# Altium footprint library PcbLib_Sword.PcbLib: 33 footprints (part 2 of 3)
Each footprint in its own frame and in the unit in brackets; x right, y up, seen from the top. Pads: shape width x height; smd on the part's side, far side on the other; paste and mask are expansions set on the pad; w line width, h text height; cw(c..) or ccw(c..) is an arc to the next point about the centre after c.
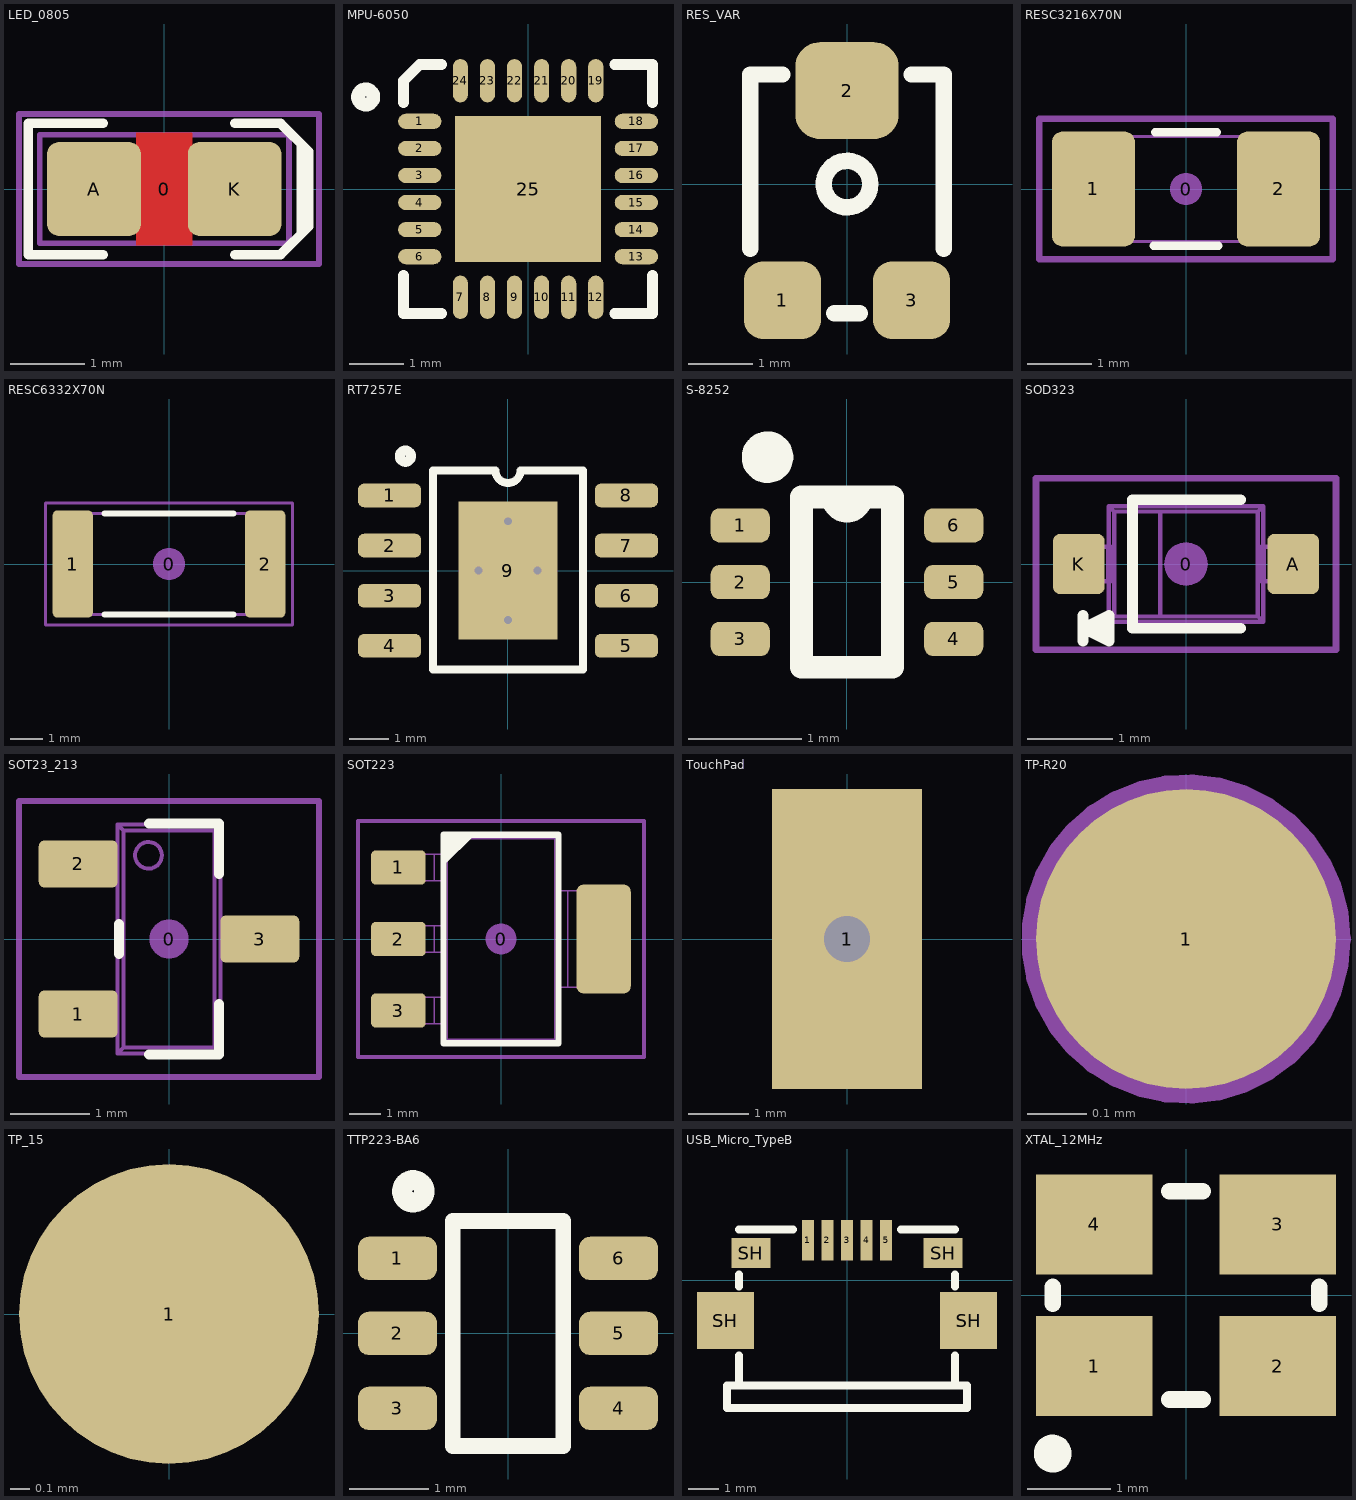
[diagram p1: the footprints below, top view; thin cyan lines are the x and y axes]

## LED_0805 [mil]
pads (3):
  round 20 on Mech15: 0(0,0)
  rrect25% 50x50 smd: A(-37.5,0) K(37.5,0)
Top Layer:
  pour cut-out: -15,30 15,30 15,-30 -15,-30
Top Overlay:
  lines w5: -32.5,-35 -72.5,-35 -72.5,35 -32.5,35 ; 37.5,-35 62,-35 77,-20 77,20 62,35 37.5,35 ; 73,-24 73,24
Mechanical 13:
  lines w3: -66.5,-29 66.5,-29 66.5,29 -66.5,29 -66.5,-29
Mechanical 15:
  lines w3: -77.5,-40 82.5,-40 82.5,40 -77.5,40 -77.5,-40
3D body: height 31.5, standoff 11.81, extent -28.65,-24.6 26.49,24.61
3D body: height 11.81, standoff 3.94, extent -39.37,-24.61 39.37,24.61
3D body: height 3.94, standoff 0, extent -39.37,-24.61 39.37,24.61
3D body: height 3.94, standoff 0, extent -11.81,-15.75 11.81,15.75

## MPU-6050 [mm]
pads (25):
  oval 0.8x0.28 smd: 1(-2,1.25) 2(-2,0.75) 3(-2,0.25) 4(-2,-0.25) 5(-2,-0.75) 6(-2,-1.25) 13(2,-1.25) 14(2,-0.75) 15(2,-0.25) 16(2,0.25) 17(2,0.75) 18(2,1.25)
  oval 0.28x0.8 smd: 7(-1.25,-2) 8(-0.75,-2) 9(-0.25,-2) 10(0.25,-2) 11(0.75,-2) 12(1.25,-2) 19(1.25,2) 20(0.75,2) 21(0.25,2) 22(-0.25,2) 23(-0.75,2) 24(-1.25,2)
  rect 2.7x2.7 smd: 25(0,0)
Top Overlay:
  circle w0.254: c-3,1.7 r0.141
  lines w0.2: -2.3,-1.6 -2.3,-2.3 -1.6,-2.3 ; -2.3,1.6 -2.3,2 -2,2.3 -1.6,2.3 ; 1.6,-2.3 2.3,-2.3 2.3,-1.6 ; 1.6,2.3 2.3,2.3 2.3,1.6
3D body "MPU-6050.step": height 0.94, standoff 0, extent -2.045,-2.045 2.045,2.045

## RES_VAR [mm]
pads (3):
  rrect50% 1.2x1.2 smd: 1(-1,-1.8) 3(1,-1.8)
  rrect50% 1.6x1.5 smd: 2(0,1.45)
Top Overlay:
  circle w0.254: c0,0 r0.361
  lines w0.254: -1.5,-1 -1.5,1.7 -1,1.7 ; -0.2,-2 0.2,-2 ; 1,1.7 1.5,1.7 1.5,-1
3D body "ResistorVar.step": height 1.11, standoff 0.01, extent -1.1,-1.524 1.1,1.375

## RESC3216X70N [mm] "Chip Resistor, Body 3.2x1.6mm, EIA 1206, IPC Medium Density"
height 0.7
pads (3):
  round 0.508 on Mech15: 0(0,0)
  rrect25% 1.3x1.8 smd: 1(-1.45,0) 2(1.45,0)
Top Overlay:
  lines w0.127: -0.508,-0.889 0.508,-0.889 ; -0.483,0.889 0.483,0.889
Mechanical 13:
  lines w0.05: 1.025,-0.824 -1.025,-0.824 1.025,-0.824 ; -1.625,-0.825 -1.625,0.825 -1.025,0.825 -1.025,-0.825 -1.625,-0.825 ; -1.025,0.824 1.025,0.824 -1.025,0.824 ; 1.025,-0.825 1.625,-0.825 1.625,0.825 1.025,0.825 1.025,-0.825
Mechanical 15:
  lines w0.1: -2.3,-1.1 2.3,-1.1 2.3,1.1 -2.3,1.1 -2.3,-1.1
3D body "RES 1206 (3216 metric).STEP": height 0.69, standoff -0.01, extent -1.625,-0.825 1.625,0.825

## RESC6332X70N [mm] "Chip Resistor, Body 6.3x3.2mm, 2512, IPC Medium Density"
height 0.7
pads (3):
  round 1 on Mech15: 0(0,0)
  rrect25% 1.25x3.35 smd: 1(-3,0) 2(3,0)
Top Overlay:
  lines w0.2: -2,-1.575 2,-1.575 ; -2,1.575 2,1.575
Mechanical 13:
  lines w0.1: -3.15,-1.575 3.15,-1.575 3.15,1.575 -3.15,1.575 -3.15,-1.575
Mechanical 15:
  lines w0.1: -3.85,-1.9 3.85,-1.9 3.85,1.9 -3.85,1.9 -3.85,-1.9
3D body "RES 2512 (6432 metric).STEP": height 0.69, standoff -0.01, extent -3.3,-1.7 3.3,1.7

## RT7257E [mm]
pads (9):
  rrect50% 1.6x0.6 smd: 1(-3,1.905) 2(-3,0.635) 3(-3,-0.635) 4(-3,-1.905) 5(3,-1.905) 6(3,-0.635) 7(3,0.635) 8(3,1.905)
  rect 2.5x3.5 smd: 9(0,0)
via 0,1.25 diameter 0.45 hole 0.2
via 0,-1.25 diameter 0.45 hole 0.2
via 0.75,0 diameter 0.45 hole 0.2
via -0.75,0 diameter 0.45 hole 0.2
Top Overlay:
  circle w0.254: c-2.6,2.9 r0.141
  lines w0.2: -1.9,-2.5 -1.9,2.54 -0.318,2.54 ccw(c0,2.54) 0.318,2.54 1.9,2.54 1.9,-2.5 -1.9,-2.5

## S-8252 [mm]
pads (6):
  rrect50% 0.52x0.3 smd: 1(-0.94,0.5) 2(-0.94,0) 3(-0.94,-0.5) 4(0.94,-0.5) 5(0.94,0) 6(0.94,0.5)
Top Overlay:
  circle w0.254: c-0.7,1.1 r0.1
  lines w0.2: -0.4,-0.75 -0.4,0.75 0.125,0.75 cw(c0,0.75) -0.125,0.75 0.4,0.75 0.4,-0.75 -0.4,-0.75

## SOD323 [mm] "SOD-323; 2 Leads; Body 1.8 x 1.35 mm, (LxW)"
height 1.15
pads (3):
  round 0.508 on Mech15: 0(0,0)
  rrect25% 0.6x0.7 smd: A(1.25,0) K(-1.25,0)
Top Overlay:
  lines w0.127: -1.2,-0.9 -1.2,-0.6 ; -0.9,-0.75 -1.2,-0.75 ; 0.635,-0.75 -0.625,-0.75 -0.625,0.75 0.635,0.75 ; -1.2,-0.75 -0.9,-0.9 -0.9,-0.6 -1.2,-0.75
Mechanical 13:
  lines w0.05: -1.157,-0.2 -1.157,0.2 ; -1.11,-0.2 -1.11,0.2 ; -0.91,-0.2 -0.91,0.2 ; -0.9,-0.2 -0.9,-0.675 ; -0.9,0.2 -0.9,0.675 ; 0.9,-0.2 0.9,-0.675 ; 0.9,0.2 0.9,0.675 ; 0.91,-0.2 0.91,0.2 ; 1.11,-0.2 1.11,0.2 ; 1.157,-0.2 1.157,0.2 ; -0.9,-0.675 -0.838,-0.613 ; -0.9,-0.675 0.9,-0.675 ; -0.9,0.675 0.9,0.675 ; -0.9,0.675 -0.838,0.613 ; -0.838,-0.613 -0.838,0.613 ; -0.838,-0.613 -0.3,-0.613 ; -0.838,0.613 -0.3,0.613 ; -0.3,-0.613 -0.3,0.613 ; -0.3,-0.613 0.838,-0.613 ; -0.3,0.613 0.838,0.613 ; 0.838,-0.613 0.838,0.613 ; 0.838,-0.613 0.9,-0.675 ; 0.838,0.613 0.9,0.675 ; -1.3,-0.2 -1.3,0.2 -0.879,0.2 -0.879,-0.2 -1.3,-0.2 ; 0.879,-0.2 1.3,-0.2 1.3,0.2 0.879,0.2 0.879,-0.2
Mechanical 15:
  lines w0.076: -1.75,-1 -1.75,1 1.75,1 1.75,-1 -1.75,-1
3D body "SOD323.STEP": height 1.1, standoff 0, extent -1.3,-0.675 1.3,0.675

## SOT23_213 [mm]
height 1.003
pads (4):
  round 0.5 on Mech15: 0(0,0)
  rrect25% 1x0.6 smd: 1(-1.15,-0.95) 2(-1.15,0.95) 3(1.15,0)
Top Overlay:
  lines w0.127: -0.635,-0.191 -0.635,0.191 ; -0.254,-1.46 0.635,-1.46 0.635,-0.826 ; -0.254,1.46 0.635,1.46 0.635,0.826
Mechanical 13:
  circle w0.05: c-0.26,1.06 r0.169
  lines w0.05: -1.19,-1.19 -1.19,-0.71 ; -1.19,0.71 -1.19,1.19 ; -1.099,-1.19 -1.099,-0.71 ; -1.099,0.71 -1.099,1.19 ; -1.074,-1.19 -1.074,-0.71 ; -1.074,0.71 -1.074,1.19 ; -0.825,-1.19 -0.825,-0.71 ; -0.825,0.71 -0.825,1.19 ; -0.65,-1.19 -1.4,-1.19 -1.4,-0.71 -0.65,-0.71 ; -0.65,0.71 -1.4,0.71 -1.4,1.19 -0.65,1.19 ; 0.65,-0.24 1.4,-0.24 1.4,0.24 0.65,0.24 ; 0.825,-0.24 0.825,0.24 ; 1.074,-0.24 1.074,0.24 ; 1.099,-0.24 1.099,0.24 ; 1.19,-0.24 1.19,0.24 ; -0.65,-1.45 0.65,-1.45 ; -0.65,-1.45 -0.65,1.45 ; -0.65,-1.45 -0.576,-1.376 ; -0.65,1.45 -0.576,1.376 ; -0.65,1.45 0.65,1.45 ; -0.576,-1.376 0.576,-1.376 ; -0.576,-1.376 -0.576,1.376 ; -0.576,1.376 0.576,1.376 ; 0.576,-1.376 0.65,-1.45 ; 0.576,-1.376 0.576,1.376 ; 0.576,1.376 0.65,1.45 ; 0.65,-1.45 0.65,1.45
Mechanical 15:
  lines w0.076: -1.9,-1.75 1.9,-1.75 1.9,1.75 -1.9,1.75 -1.9,-1.75
3D body "SOT23-3.STEP": height 1.29, standoff -0.01, extent -1.4,-1.45 1.4,1.45

## SOT223 [mm] "SOT223 /SC-73"
height 1.524
pads (5):
  round 1 on Mech15: 0(0,0)
  rrect25% 1.75x1.1 smd: 1(-3.3,2.3) 2(-3.3,0) 3(-3.3,-2.3)
  rrect25% 1.75x3.5 smd: ""(3.3,0)
Top Overlay:
  region: -1.85,3.35 -0.85,3.35 -1.85,2.35
  lines w0.2: -1.85,-3.35 -1.85,3.35 1.85,3.35 1.85,-3.35 -1.85,-3.35
Mechanical 13:
  lines w0.05: -3.186,-2.72 -3.186,-1.88 ; -3.186,-0.42 -3.186,0.42 ; -3.186,1.88 -3.186,2.72 ; -3.062,-2.72 -3.062,-1.88 ; -3.062,-0.42 -3.062,0.42 ; -3.062,1.88 -3.062,2.72 ; -2.506,-2.72 -2.506,-1.88 ; -2.506,-0.42 -2.506,0.42 ; -2.506,1.88 -2.506,2.72 ; -2.152,-2.72 -2.152,-1.88 ; -2.152,-0.42 -2.152,0.42 ; -2.152,1.88 -2.152,2.72 ; -1.85,-2.72 -1.85,-3.35 ; -1.85,-1.88 -1.85,-0.42 ; -1.85,0.42 -1.85,1.88 ; -1.85,2.72 -1.85,3.35 ; 1.85,-1.55 1.85,-3.35 ; 1.85,1.55 1.85,3.35 ; 2.152,-1.55 2.152,1.55 ; 2.506,-1.55 2.506,1.55 ; 3.062,-1.55 3.062,1.55 ; 3.186,-1.55 3.186,1.55 ; -1.85,-3.35 -1.731,-3.231 ; -1.85,-3.35 1.85,-3.35 ; -1.85,3.35 -1.731,3.231 ; -1.85,3.35 1.85,3.35 ; -1.731,-3.231 1.731,-3.231 ; -1.731,-3.231 -1.731,3.231 ; -1.731,3.231 1.731,3.231 ; 1.731,-3.231 1.85,-3.35 ; 1.731,-3.231 1.731,3.231 ; 1.731,3.231 1.85,3.35 ; -3.65,-2.72 -3.65,-1.88 -1.829,-1.88 -1.829,-2.72 -3.65,-2.72 ; -3.65,-0.42 -3.65,0.42 -1.829,0.42 -1.829,-0.42 -3.65,-0.42 ; -3.65,1.88 -3.65,2.72 -1.829,2.72 -1.829,1.88 -3.65,1.88 ; 1.829,-1.55 3.65,-1.55 3.65,1.55 1.829,1.55 1.829,-1.55
Mechanical 15:
  lines w0.127: -4.6,-3.8 -4.6,3.8 4.6,3.8 4.6,-3.8 -4.6,-3.8
3D body "SOT223-4.STEP": height 1.8, standoff 0, extent -3.65,-3.35 3.65,3.35

## TouchPad [mm]
pads (1):
  rect 2.5x5 hole 0.762: 1(0,0)

## TP-R20 [mil]
pads (1):
  round 20 smd paste-30 mask+3: 1(0,0)
Mechanical 13:
  circle w1.97: c0,0 r10
3D body: height -3, standoff -5, extent -10.91,-10.98 11,10.98

## TP_15 [mil]
pads (1):
  round 60 smd: 1(0,0)

## TTP223-BA6 [mm]
pads (6):
  rrect50% 1x0.55 smd: 1(-1.4,0.95) 2(-1.4,0) 3(-1.4,-0.95) 4(1.4,-0.95) 5(1.4,0) 6(1.4,0.95)
Top Overlay:
  circle w0.254: c-1.2,1.8 r0.141
  lines w0.2: -0.7,-1.425 -0.7,1.425 0.7,1.425 0.7,-1.425 -0.7,-1.425

## USB_Micro_TypeB [mm]
pads (9):
  rect 0.4x1.35 smd: 1(-1.3,1.338) 2(-0.65,1.338) 3(0,1.338) 4(0.65,1.338) 5(1.3,1.338)
  rect 1.9x1.9 smd: SH(-4.05,-1.338) SH(4.05,-1.338)
  rect 1.3x1 smd: SH(-3.2,0.913) SH(3.2,0.913)
Top Overlay:
  lines w0.254: -3.65,-3.5 -4,-3.5 -4,-4.25 4,-4.25 4,-3.5 3.6,-3.5 ; -3.6,-3.5 3.6,-3.5 ; -3.6,-3.45 -3.6,-2.5 ; -3.6,-0.2 -3.6,0.2 ; -3.6,1.7 -1.8,1.7 ; 1.8,1.7 3.6,1.7 ; 3.6,-2.5 3.6,-3.5 ; 3.6,-0.2 3.6,0.2
3D body "USB.STEP": height 2.79, standoff -0.78, extent -4,-4 4,1.6

## XTAL_12MHz [mm]
pads (4):
  rect 1.4x1.2 smd: 1(-1.1,-0.85) 2(1.1,-0.85) 3(1.1,0.85) 4(-1.1,0.85)
Top Overlay:
  circle w0.254: c-1.6,-1.9 r0.1
  lines w0.2: -1.6,-0.1 -1.6,0.1 ; -0.2,-1.25 0.2,-1.25 ; -0.2,1.25 0.2,1.25 ; 1.6,-0.1 1.6,0.1